# Altium footprint library AMPHENOL_95157-440LF.PcbLib: 1 footprints
Each footprint in its own frame and in the unit in brackets; x right, y up, seen from the top. Pads: shape width x height; smd on the part's side, far side on the other; paste and mask are expansions set on the pad; w line width, h text height; cw(c..) or ccw(c..) is an arc to the next point about the centre after c.
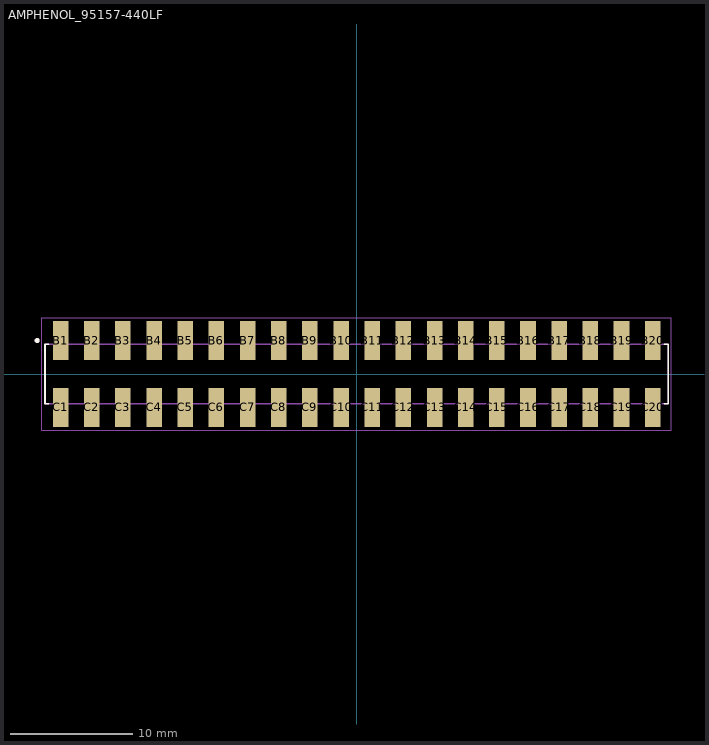
[diagram p0: the footprint, top view; thin cyan lines are the x and y axes]

## AMPHENOL_95157-440LF [mm]
pads (40):
  rect 1.27x3.18 smd: B1(-24.13,2.73) B2(-21.59,2.73) B3(-19.05,2.73) B4(-16.51,2.73) B5(-13.97,2.73) B6(-11.43,2.73) B7(-8.89,2.73) B8(-6.35,2.73) B9(-3.81,2.73) B10(-1.27,2.73) B11(1.27,2.73) B12(3.81,2.73) B13(6.35,2.73) B14(8.89,2.73) B15(11.43,2.73) B16(13.97,2.73) B17(16.51,2.73) B18(19.05,2.73) B19(21.59,2.73) B20(24.13,2.73) C1(-24.13,-2.73) C2(-21.59,-2.73) C3(-19.05,-2.73) C4(-16.51,-2.73) C5(-13.97,-2.73) C6(-11.43,-2.73) C7(-8.89,-2.73) C8(-6.35,-2.73) C9(-3.81,-2.73) C10(-1.27,-2.73) C11(1.27,-2.73) C12(3.81,-2.73) C13(6.35,-2.73) C14(8.89,-2.73) C15(11.43,-2.73) C16(13.97,-2.73) C17(16.51,-2.73) C18(19.05,-2.73) C19(21.59,-2.73) C20(24.13,-2.73)
Top Overlay:
  circle w0.2: c-26.05,2.73 r0.1
  lines w0.127: -25.085,-2.415 -25.4,-2.415 -25.4,2.415 -25.085,2.415 ; 25.085,-2.415 25.4,-2.415 25.4,2.415 25.085,2.415
Assembly Top:
  circle w0.2: c-26.05,2.73 r0.1
  lines w0.127: -25.4,-2.415 -25.4,2.415 25.4,2.415 25.4,-2.415 -25.4,-2.415
Courtyard Top:
  lines w0.05: -25.65,-4.57 -25.65,4.57 25.65,4.57 25.65,-4.57 -25.65,-4.57
3D body "step_temp.STEP": height 9.66, standoff 0, extent -25.2,-3.638 25.2,3.648